# EAGLE library part ATA6561-GAQW-N (library ATA6561-GAQW-N)
MICROCHIP - ATA6561-GAQW-N - CAN TRANSCEIVER, 5MBPS, -40 TO 150DEG C Source: Datasheet <http://ww1.microchip.com/downloads/en/DeviceDoc/ATA6560-ATA6561-High-Speed-CAN-Transceiver-DS20005991A.pdf>
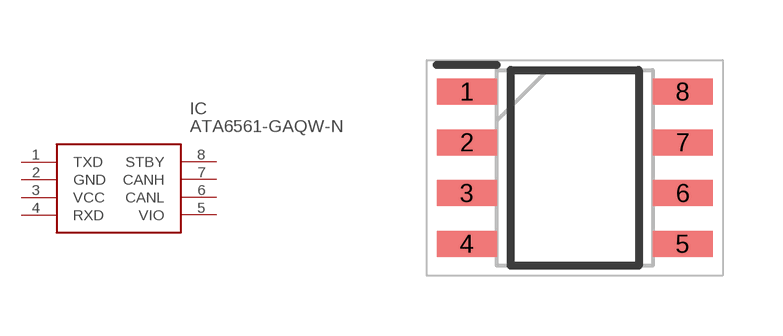
[diagram p0: symbol with the pads of SOIC127P600X175-8N; footprint SOIC127P600X175-8N]

Designator prefix IC

## ATA6561-GAQW-N (Description: MICROCHIP - ATA6561-GAQW-N - CAN TRANSCEIVER, 5MBPS, -40 TO 150DEG C; Height: 1.75mm; Manufacturer_Name: Microchip; Manufacturer_Part_Number: ATA6561-GAQW-N; Mouser_Part_Number: 579-ATA6561-GAQW-N; Mouser_Price-Stock: https://www.mouser.co.uk/ProductDetail/Microchip-Technology/ATA6561-GAQW-N?qs=y6ZabgHbY%252BwGbm2JCZMHKQ%3D%3D)  [SOIC127P600X175-8N]
1  TXD
2  GND
3  VCC
4  RXD
5  VIO
6  CANL
7  CANH
8  STBY

## Footprint SOIC127P600X175-8N (pad centres in mm)
ATA6561-GAQW-N
smd 1.5 x 0.65: 1 -2.7,1.905; 2 -2.7,0.635; 3 -2.7,-0.635; 4 -2.7,-1.905; 5 2.7,-1.905; 6 2.7,-0.635; 7 2.7,0.635; 8 2.7,1.905